# Altium schematic symbol library molex.SchLib: 4 symbols
Pins are listed as number, name and electrical type; pins without a type are passive.

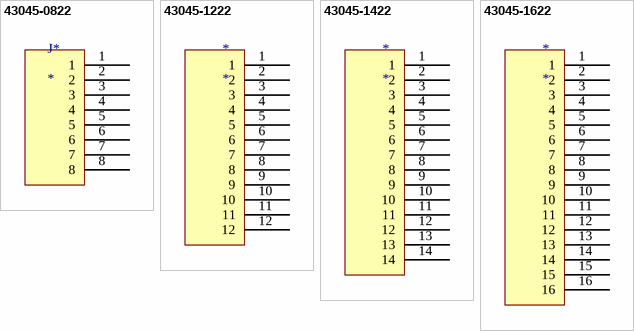
[diagram p0: symbols 43045-0822 to 43045-1622]

## 43045-0822
designator J*
footprint 43045-0822 (8 pin molex female)
pins: 1, 2, 3, 4, 5, 6, 7, 8

## 43045-1222
designator *
footprint 43045-1222 (12 pin molex female)
pins: 1, 2, 3, 4, 5, 6, 7, 8, 9, 10, 11, 12

## 43045-1422
designator *
footprint 43045-1422 (14 pin molex female)
pins: 1, 2, 3, 4, 5, 6, 7, 8, 9, 10, 11, 12, 13, 14

## 43045-1622
designator *
footprint 43045-1622 (16 pin molex female)
pins: 1, 2, 3, 4, 5, 6, 7, 8, 9, 10, 11, 12, 13, 14, 15, 16